# EAGLE library part LXDC55KAAA-205 (library lxdc55kaaa-205)
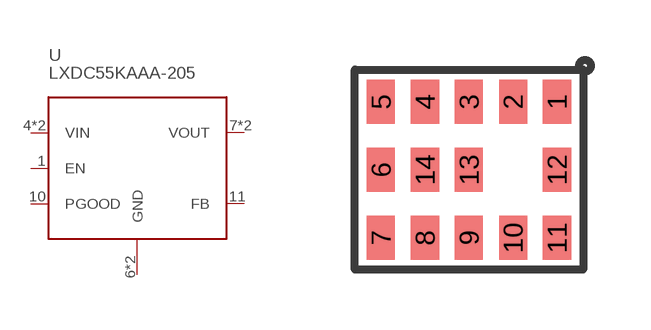
[diagram p0: symbol with the pads of LXDC55KAAA-205; footprint LXDC55KAAA-205]

Designator prefix U

## LXDC55KAAA-205  [LXDC55KAAA-205]
1  EN  in
4  VIN  pwr
5  VIN  pwr
6  GND  pwr
7  VOUT  pwr
8  VOUT  pwr
10  PGOOD
11  FB  pas
12  GND  pwr

## Footprint LXDC55KAAA-205 (pad centres in mm)
smd 0.7 x 1.1: 1 2.2,1.7; 2 1.1,1.7; 3 0,1.7; 4 -1.1,1.7; 5 -2.2,1.7; 6 -2.2,0; 7 -2.2,-1.7; 8 -1.1,-1.7; 9 0,-1.7; 10 1.1,-1.7; 11 2.2,-1.7; 12 2.2,0; 13 0,0; 14 -1.1,0